# Altium footprint library People Counter.PcbLib: 40 footprints (part 1 of 3)
Each footprint in its own frame and in the unit in brackets; x right, y up, seen from the top. Pads: shape width x height; smd on the part's side, far side on the other; paste and mask are expansions set on the pad; w line width, h text height; cw(c..) or ccw(c..) is an arc to the next point about the centre after c.
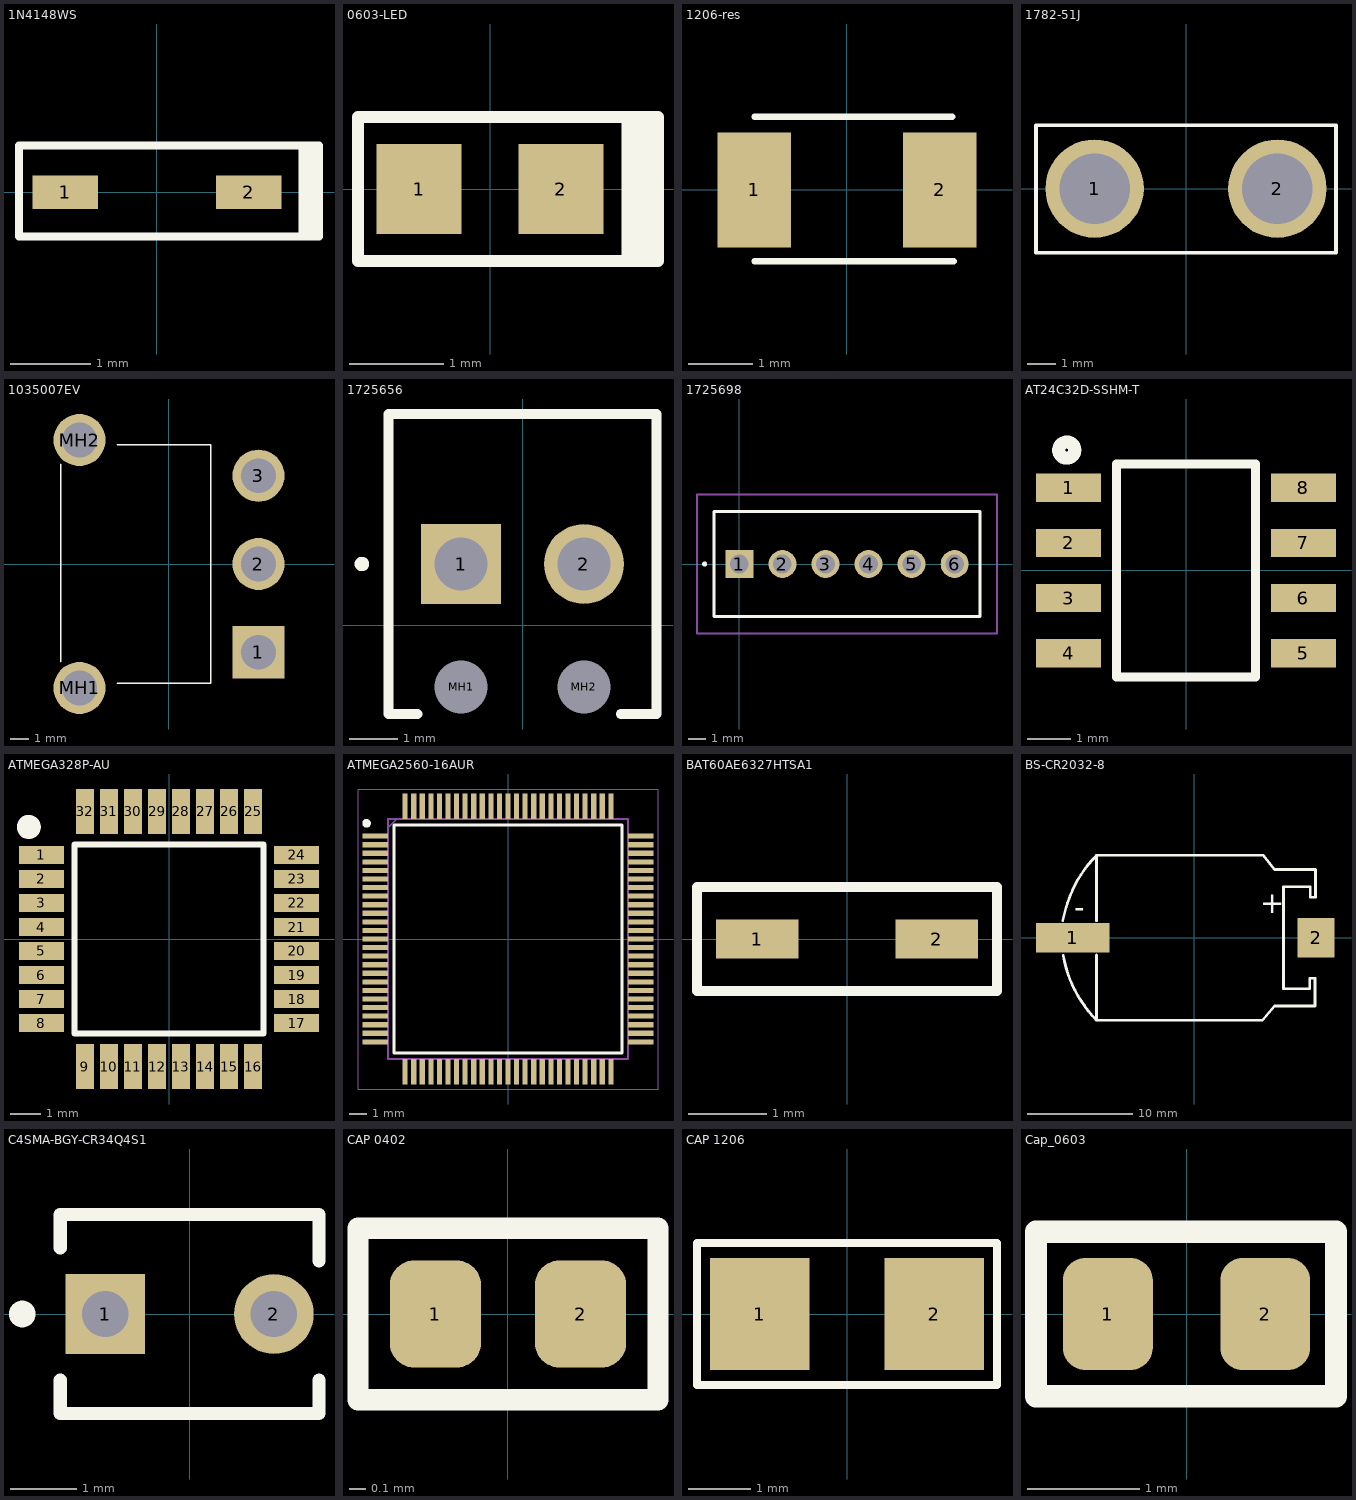
[diagram p0: the footprints below, top view; thin cyan lines are the x and y axes]

## 1N4148WS [mm]
pads (2):
  rect 0.82x0.42 smd: 1(-1.15,0) 2(1.15,0)
Top Overlay:
  rectangle: 1.778,-0.559 2.032,0.635
  lines w0.1: -1.727,-0.559 2.032,-0.559 2.032,0.584 -1.727,0.584 -1.727,-0.559
3D body "1N4148WS.stp": height 0.9, standoff 0, extent -1.25,-0.625 1.25,0.625

## 0603-LED [mm] "LTST-C190GKT"
pads (2):
  rect 0.9x0.95 smd: 1(-0.75,0) 2(0.75,0)
Top Overlay:
  rectangle: 1.392,-0.762 1.778,0.74
  lines w0.127: -1.397,-0.762 -1.397,0.762 1.778,0.762 1.778,-0.762 -1.397,-0.762
3D body "LTST-C190GKT.stp": height 0.8, standoff 0, extent -0.82,-0.4 0.78,0.4

## 1206-res [mm]
height 1.3
pads (2):
  rect 1.15x1.8 smd: 1(-1.45,0) 2(1.45,0)
Top Overlay:
  lines w0.1: -1.45,-1.118 1.674,-1.118 ; -1.45,1.143 1.649,1.143
3D body: height 0.64, standoff 0.13, extent -1.45,-0.889 1.598,0.889

## 1782-51J [mm]
pads (2):
  round 3.5 hole 2.5: 1(-3.25,0) 2(3.25,0)
Top Overlay:
  lines w0.127: -5.334,-2.286 -3.81,-2.286 5.334,-2.286 5.334,2.261 -5.334,2.261 -5.334,-2.286

## 1035007EV [mm]
pads (5):
  rect 2.775x2.775 hole 1.85: 1(4.765,-4.7)
  round 2.775 hole 1.85: 2(4.765,0) 3(4.765,4.7) MH1(-4.765,-6.6) MH2(-4.765,6.6)
Top Overlay:
  lines w0.1: -5.765,-5.2 -5.765,5.3 ; -2.735,-6.35 2.225,-6.35 2.225,6.35 -2.735,6.35
3D body "103-5007-EV.stp": height 6.3, standoff -2.86, extent -10.909,-6.45 5.312,6.65

## 1725656 [mm]
pads (4):
  rect 1.65x1.65 hole 1.1: 1(-1.27,1.27)
  round 1.65 hole 1.1: 2(1.27,1.27)
  round 0.55 hole 1.1 unplated: MH1(-1.27,-1.27) MH2(1.27,-1.27)
Top Overlay:
  lines w0.2: -2.17,-1.83 -2.77,-1.83 -2.77,4.37 2.77,4.37 2.77,-1.83 2.03,-1.83 ; -3.37,1.27 ccw(c-3.32,1.27) -3.27,1.27 ; -3.37,1.27 cw(c-3.32,1.27) -3.27,1.27 ; -3.37,1.27 ccw(c-3.32,1.27) -3.27,1.27
3D body "1725656.stp": height 9, standoff -3, extent -2.77,-1.83 2.77,4.37

## 1725698 [mm]
pads (6):
  rect 1.65x1.65 hole 1.1: 1(0,0)
  round 1.65 hole 1.1: 2(2.54,0) 3(5.08,0) 4(7.62,0) 5(10.16,0) 6(12.7,0)
Top Overlay:
  lines w0.2: -2.1,0 ccw(c-2.05,0) -2,0 ; -2.1,0 cw(c-2.05,0) -2,0 ; -2.1,0 -2,0 ; -1.5,-3.1 14.2,-3.1 14.2,3.1 -1.5,3.1 -1.5,-3.1
Mechanical 13:
  lines w0.1: -1.5,-3.1 14.2,-3.1 14.2,3.1 -1.5,3.1 -1.5,-3.1
Mechanical 15:
  lines w0.1: -2.5,-4.1 15.2,-4.1 15.2,4.1 -2.5,4.1 -2.5,-4.1
3D body "1725698.stp": height 8.61, standoff -3.39, extent -1.5,-3.1 14.2,3.1

## AT24C32D-SSHM-T [mm]
pads (8):
  rect 1.5x0.65 smd: 1(-2.7,1.905) 2(-2.7,0.635) 3(-2.7,-0.635) 4(-2.7,-1.905) 5(2.7,-1.905) 6(2.7,-0.635) 7(2.7,0.635) 8(2.7,1.905)
Top Overlay:
  circle w0.3: c-2.743,2.769 r0.185
  lines w0.2: -1.6,-2.45 1.6,-2.45 1.6,2.45 -1.6,2.45 -1.6,-2.45
3D body "AT24C32D-SSHM-T.stp": height 1.75, standoff 0, extent -3,-2.45 3,2.45

## ATMEGA328P-AU [mm]
pads (32):
  rect 1.5x0.6 smd: 1(-4.25,2.8) 2(-4.25,2) 3(-4.25,1.2) 4(-4.25,0.4) 5(-4.25,-0.4) 6(-4.25,-1.2) 7(-4.25,-2) 8(-4.25,-2.8) 17(4.25,-2.8) 18(4.25,-2) 19(4.25,-1.2) 20(4.25,-0.4) 21(4.25,0.4) 22(4.25,1.2) 23(4.25,2) 24(4.25,2.8)
  rect 0.6x1.5 smd: 9(-2.8,-4.25) 10(-2,-4.25) 11(-1.2,-4.25) 12(-0.4,-4.25) 13(0.4,-4.25) 14(1.2,-4.25) 15(2,-4.25) 16(2.8,-4.25) 25(2.8,4.25) 26(2,4.25) 27(1.2,4.25) 28(0.4,4.25) 29(-0.4,4.25) 30(-1.2,4.25) 31(-2,4.25) 32(-2.8,4.25)
Top Overlay:
  circle w0.4: c-4.674,3.734 r0.2
  lines w0.2: -3.15,-3.15 3.15,-3.15 3.15,3.15 -3.15,3.15 -3.15,-3.15
3D body "ATMEGA328P-AU.stp": height 1.2, standoff 0, extent -4.5,-4.5 4.5,4.5

## ATMEGA2560-16AUR [mm]
pads (100):
  rect 1.5x0.3 smd: 1(-7.75,6) 2(-7.75,5.5) 3(-7.75,5) 4(-7.75,4.5) 5(-7.75,4) 6(-7.75,3.5) 7(-7.75,3) 8(-7.75,2.5) 9(-7.75,2) 10(-7.75,1.5) 11(-7.75,1) 12(-7.75,0.5) 13(-7.75,0) 14(-7.75,-0.5) 15(-7.75,-1) 16(-7.75,-1.5) 17(-7.75,-2) 18(-7.75,-2.5) 19(-7.75,-3) 20(-7.75,-3.5) 21(-7.75,-4) 22(-7.75,-4.5) 23(-7.75,-5) 24(-7.75,-5.5) 25(-7.75,-6) 51(7.75,-6) 52(7.75,-5.5) 53(7.75,-5) 54(7.75,-4.5) 55(7.75,-4) 56(7.75,-3.5) 57(7.75,-3) 58(7.75,-2.5) 59(7.75,-2) 60(7.75,-1.5) 61(7.75,-1) 62(7.75,-0.5) 63(7.75,0) 64(7.75,0.5) 65(7.75,1) 66(7.75,1.5) 67(7.75,2) 68(7.75,2.5) 69(7.75,3) 70(7.75,3.5) 71(7.75,4) 72(7.75,4.5) 73(7.75,5) 74(7.75,5.5) 75(7.75,6)
  rect 0.3x1.5 smd: 26(-6,-7.75) 27(-5.5,-7.75) 28(-5,-7.75) 29(-4.5,-7.75) 30(-4,-7.75) 31(-3.5,-7.75) 32(-3,-7.75) 33(-2.5,-7.75) 34(-2,-7.75) 35(-1.5,-7.75) 36(-1,-7.75) 37(-0.5,-7.75) 38(0,-7.75) 39(0.5,-7.75) 40(1,-7.75) 41(1.5,-7.75) 42(2,-7.75) 43(2.5,-7.75) 44(3,-7.75) 45(3.5,-7.75) 46(4,-7.75) 47(4.5,-7.75) 48(5,-7.75) 49(5.5,-7.75) 50(6,-7.75) 76(6,7.75) 77(5.5,7.75) 78(5,7.75) 79(4.5,7.75) 80(4,7.75) 81(3.5,7.75) 82(3,7.75) 83(2.5,7.75) 84(2,7.75) 85(1.5,7.75) 86(1,7.75) 87(0.5,7.75) 88(0,7.75) 89(-0.5,7.75) 90(-1,7.75) 91(-1.5,7.75) 92(-2,7.75) 93(-2.5,7.75) 94(-3,7.75) 95(-3.5,7.75) 96(-4,7.75) 97(-4.5,7.75) 98(-5,7.75) 99(-5.5,7.75) 100(-6,7.75)
Top Overlay:
  circle w0.25: c-8.25,6.75 r0.125
  lines w0.2: -6.65,-6.65 -6.65,6.65 6.65,6.65 6.65,-6.65 -6.65,-6.65
Mechanical 13:
  lines w0.1: -7,6.5 -6.5,7 ; -7,-7 -7,7 7,7 7,-7 -7,-7
Mechanical 15:
  lines w0.05: -8.75,-8.75 -8.75,8.75 8.75,8.75 8.75,-8.75 -8.75,-8.75
3D body "ATMEGA2560-16AUR.stp": height 1.2, standoff 0, extent -8,-8 8,8

## BAT60AE6327HTSA1 [mm]
pads (2):
  rect 1.05x0.5 smd: 1(-1.138,0) 2(1.138,0)
Top Overlay:
  lines w0.127: -1.905,-0.66 -1.905,0.66 1.905,0.66 1.905,-0.66 -1.905,-0.66
3D body "BAT60AE6327HTSA1.stp": height 1.1, standoff 0, extent -1.25,-0.65 1.25,0.65

## BS-CR2032-8 [mm]
pads (2):
  rect 7x2.8 smd: 1(-11.575,0)
  rect 3.5x3.8 smd: 2(11.575,0)
Top Overlay:
  lines w0.254: -12.516,1.649 cw(c-0.808,-0.466) -9.316,7.85 -9.316,1.631 ; -12.483,-1.666 ccw(c-0.894,0.366) -9.316,-7.85 ; -9.317,7.85 6.558,7.85 7.621,6.5 11.519,6.5 11.519,3.85 11.019,3.85 11.019,4.85 8.519,4.85 ; -9.316,-1.631 -9.316,-7.85 ; 8.483,4.85 8.483,-4.85 10.983,-4.85 10.983,-3.85 11.483,-3.85 11.483,-6.5 7.617,-6.5 6.466,-7.85 -9.316,-7.85
  text "+" at 6.25,2.317 h2.03
  text "-" at -11.436,1.893 h2.03

## C4SMA-BGY-CR34Q4S1 [mm]
pads (2):
  rect 1.2x1.2 hole 0.7: 1(-1.27,0)
  round 1.2 hole 0.7: 2(1.27,0)
Top Overlay:
  lines w0.2: -1.95,-1 -1.95,-1.5 1.95,-1.5 1.95,-1 ; -1.95,1 -1.95,1.5 1.95,1.5 1.95,0.8
  lines w0.3: -2.57,0 ccw(c-2.52,0) -2.47,0 ccw(c-2.52,0) -2.57,0
3D body "C4SMA-BGY-CR34Q4S1.stp": height 12.14, standoff -20.16, extent -2.005,-1.497 2.005,1.498

## CAP 0402 [mm]
pads (2):
  rrect53% 0.54x0.635 smd: 1(-0.43,0) 2(0.43,0)
Top Overlay:
  lines w0.127: -0.889,-0.508 0.889,-0.508 0.889,0.508 -0.889,0.508 -0.889,-0.508
3D body "User Library-CAP0402-1.step": height 0.5, standoff 0, extent -0.475,-0.25 0.525,0.25

## CAP 1206 [mm]
height 1.3
pads (2):
  rect 1.6x1.8 smd: 1(-1.4,0) 2(1.4,0)
Top Overlay:
  lines w0.127: -2.413,-1.143 -2.413,1.143 2.413,1.143 2.413,-1.143 -2.413,-1.143
3D body "CAP1206.stp": height 1, standoff 0, extent -1.6,-0.8 1.6,0.8

## Cap_0603 [mm]
pads (2):
  rrect50% 0.8x1 smd: 1(-0.7,0) 2(0.7,0)
Top Overlay:
  lines w0.2: -1.34,-0.73 -1.34,0.73 1.33,0.73 1.33,-0.73 -1.34,-0.73
3D body "CAP0603.stp": height 0.3, standoff 0, extent -0.8,-0.4 0.8,0.4